# Altium schematic symbol library Potentiometers.SchLib: 2 symbols
Pins are listed as number, name and electrical type; pins without a type are passive.

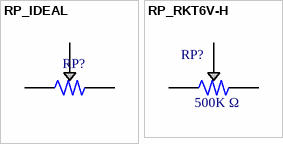
[diagram p0: symbols RP_IDEAL to RP_RKT6V-H]

## RP_IDEAL
designator RP?
Temperature Min: °C; Temperature Max: °C
footprint RESISTOR
pins: 1, 2, 3

## RP_RKT6V-H
designator RP?  value 500K Ω
MPN: RKT6V-H; Temperature Min: °C; Temperature Max: °C
footprint RP_RKT6V
pins: 1, 2, 3